# EAGLE library part ANYBUS-HOST-CONNECTOR2 (library h8-conector)
Anybus Host Connector Der Anybus Host Connector ist eine um 90° gewinkelte Pinleiste mit 50 Pins. Er erlaubt das implemenieren von Anybus Modulen der CompactCom M30 und M40 Reihe auf eine Leiterplatte. Mehr auf https://www.anybus.com/de/produkte/embedded-index/anybus-compactcom-modules Created by Hans Achterbahn (https://github.com/HansAchterbahn)
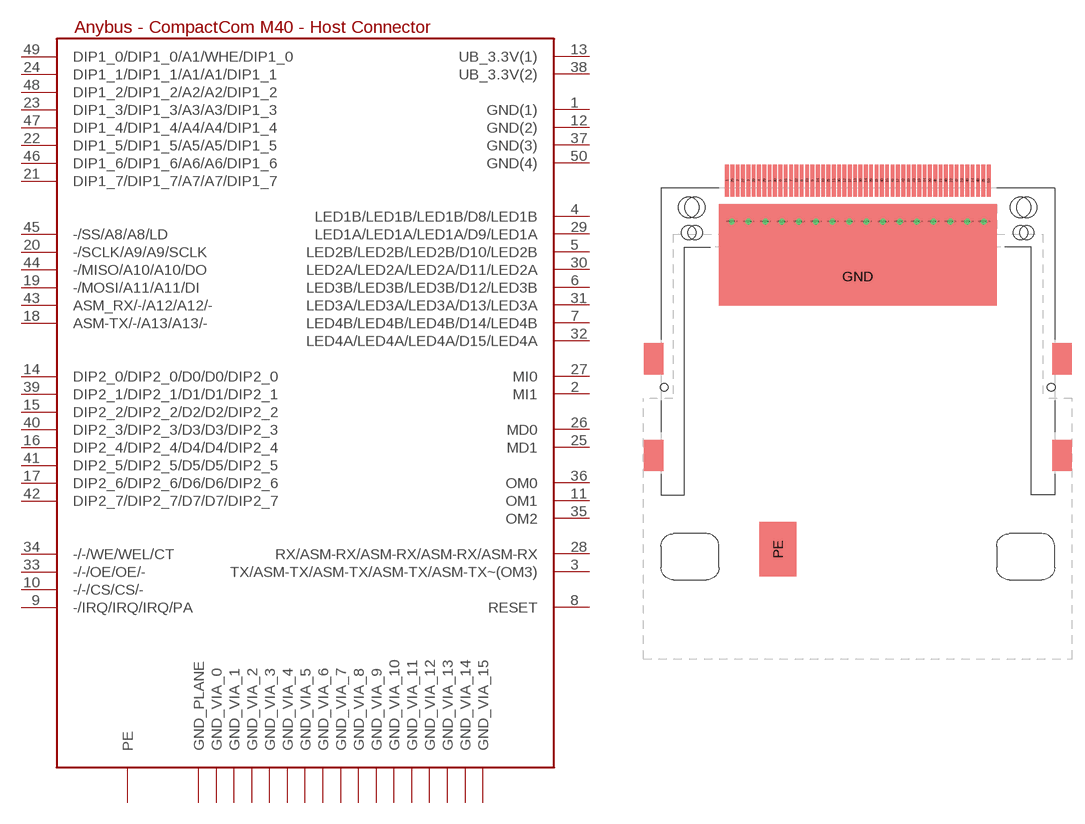
[diagram p8: symbol with the pads of ANYBUS-HOST-CONNECTOR2; footprint ANYBUS-HOST-CONNECTOR2]

Designator prefix X

## ANYBUS-HOST-CONNECTOR2  [ANYBUS-HOST-CONNECTOR2]
1  GND(1)  sup
2  MI1  out
3  TX/ASM-TX/ASM-TX/ASM-TX/ASM-TX~(OM3)  out
4  LED1B/LED1B/LED1B/D8/LED1B  out
5  LED2B/LED2B/LED2B/D10/LED2B  out
6  LED3B/LED3B/LED3B/D12/LED3B
7  LED4B/LED4B/LED4B/D14/LED4B  out
8  RESET  in
9  -/IRQ/IRQ/IRQ/PA  out
10  -/-/CS/CS/-  in
11  OM1  in
12  GND(2)  sup
13  UB_3.3V(1)  sup
14  DIP2_0/DIP2_0/D0/D0/DIP2_0
15  DIP2_2/DIP2_2/D2/D2/DIP2_2
16  DIP2_4/DIP2_4/D4/D4/DIP2_4
17  DIP2_6/DIP2_6/D6/D6/DIP2_6
18  ASM-TX/-/A13/A13/-
19  -/MOSI/A11/A11/DI  in
20  -/SCLK/A9/A9/SCLK
21  DIP1_7/DIP1_7/A7/A7/DIP1_7  in
22  DIP1_5/DIP1_5/A5/A5/DIP1_5  in
23  DIP1_3/DIP1_3/A3/A3/DIP1_3  in
24  DIP1_1/DIP1_1/A1/A1/DIP1_1  in
25  MD1  out
26  MD0  out
27  MI0  out
28  RX/ASM-RX/ASM-RX/ASM-RX/ASM-RX  in
29  LED1A/LED1A/LED1A/D9/LED1A  out
30  LED2A/LED2A/LED2A/D11/LED2A  out
31  LED3A/LED3A/LED3A/D13/LED3A
32  LED4A/LED4A/LED4A/D15/LED4A  out
33  -/-/OE/OE/-  in
34  -/-/WE/WEL/CT
35  OM2  in
36  OM0  in
37  GND(3)  sup
38  UB_3.3V(2)  sup
39  DIP2_1/DIP2_1/D1/D1/DIP2_1
40  DIP2_3/DIP2_3/D3/D3/DIP2_3
41  DIP2_5/DIP2_5/D5/D5/DIP2_5
42  DIP2_7/DIP2_7/D7/D7/DIP2_7
43  ASM_RX/-/A12/A12/-  in
44  -/MISO/A10/A10/DO
45  -/SS/A8/A8/LD  in
46  DIP1_6/DIP1_6/A6/A6/DIP1_6  in
47  DIP1_4/DIP1_4/A4/A4/DIP1_4  in
48  DIP1_2/DIP1_2/A2/A2/DIP1_2  in
49  DIP1_0/DIP1_0/A1/WHE/DIP1_0  in
50  GND(4)  sup
GND  GND_PLANE  sup
GND_VIA_0  GND_VIA_0  sup
GND_VIA_1  GND_VIA_1  sup
GND_VIA_2  GND_VIA_2  sup
GND_VIA_3  GND_VIA_3  sup
GND_VIA_4  GND_VIA_4  sup
GND_VIA_5  GND_VIA_5  sup
GND_VIA_6  GND_VIA_6  sup
GND_VIA_7  GND_VIA_7  sup
GND_VIA_8  GND_VIA_8  sup
GND_VIA_9  GND_VIA_9  sup
GND_VIA_10  GND_VIA_10  sup
GND_VIA_11  GND_VIA_11  sup
GND_VIA_12  GND_VIA_12  sup
GND_VIA_13  GND_VIA_13  sup
GND_VIA_14  GND_VIA_14  sup
GND_VIA_15  GND_VIA_15  sup
PE  PE  sup

## Footprint ANYBUS-HOST-CONNECTOR2 (pad centres in mm)
Anybus Host Connector Der Anybus Host Connector ist eine um 90° gewinkelte Pinleiste mit 50 Pins. Er erlaubt das implemenieren von Anybus Modulen der CompactCom M30 und M40 Reihe auf eine Leiterplatte. Mehr auf https://www.anybus.com/de/produkte/embedded-index/anybus-compactcom-modules Created by Hans Achterbahn (https://github.com/HansAchterbahn)
smd 0.45 x 3.8: 1 -15.557,56.895; 2 -14.287,56.895; 3 -13.018,56.895; 4 -11.748,56.895; 5 -10.477,56.895; 6 -9.207,56.895; 7 -7.938,56.895; 8 -6.668,56.895; 9 -5.397,56.895; 10 -4.128,56.895; 11 -2.857,56.895; 12 -1.587,56.895; 13 -0.318,56.895; 14 0.953,56.895; 15 2.223,56.895; 16 3.493,56.895; 17 4.763,56.895; 18 6.032,56.895; 19 7.303,56.895; 20 8.572,56.895; 21 9.842,56.895; 22 11.113,56.895; 23 12.383,56.895; 24 13.652,56.895; 25 14.922,56.895; 26 -14.922,56.895; 27 -13.652,56.895; 28 -12.383,56.895; 29 -11.113,56.895; 30 -9.842,56.895; 31 -8.572,56.895; 32 -7.303,56.895; 33 -6.032,56.895; 34 -4.763,56.895; 35 -3.493,56.895; 36 -2.223,56.895; 37 -0.953,56.895; 38 0.318,56.895; 39 1.587,56.895; 40 2.857,56.895; 41 4.128,56.895; 42 5.397,56.895; 43 6.668,56.895; 44 7.938,56.895; 45 9.207,56.895; 46 10.477,56.895; 47 11.748,56.895; 48 13.018,56.895; 49 14.287,56.895; 50 15.557,56.895
smd 33 x 7: GND 0,45.5
drill 0.2: GND_VIA_0 -15,52; GND_VIA_1 -13,52; GND_VIA_2 -11,52; GND_VIA_3 -9,52; GND_VIA_4 -7,52; GND_VIA_5 -5,52; GND_VIA_6 -3,52; GND_VIA_7 -1,52; GND_VIA_8 1,52; GND_VIA_9 3,52; GND_VIA_10 5,52; GND_VIA_11 7,52; GND_VIA_12 9,52; GND_VIA_13 11,52; GND_VIA_14 13,52; GND_VIA_15 15,52
smd 4.4 x 6.5: PE -9.5,13.05
hole 1.7 at 20.1,50.7
hole 1.7 at -19.35,50.7
hole 1.7 at -20.1,50.7
hole 2.4 at -19.35,53.7
hole 2.4 at -20.1,53.7
hole 0.9 at 23,32.3
hole 0.9 at -23,32.3
hole 1.7 at 19.35,50.7
hole 2.4 at 19.35,53.7
hole 2.4 at 20.1,53.7